# EAGLE library part WIZ550IO_V1.0 (library WIZnet)
W550io WIZ550io is an auto configurable Ethernet controller that includes a W5500 (TCP/IP hardwired chip and PHY embedded), a transformer and RJ45. It has a unique real MAC address and configures the network setting automatically. When powered on, WIZ550io initializes itself … with embedded real MAC and sets the default IP address (192.168.1.2) and it can be pinged. Therefore, users are not required to write MAC and network information like IP address, Subnet mask and Gateway address. The WIZ550io is an ideal product for users who want to develop their Internet enabling systems rapidly.
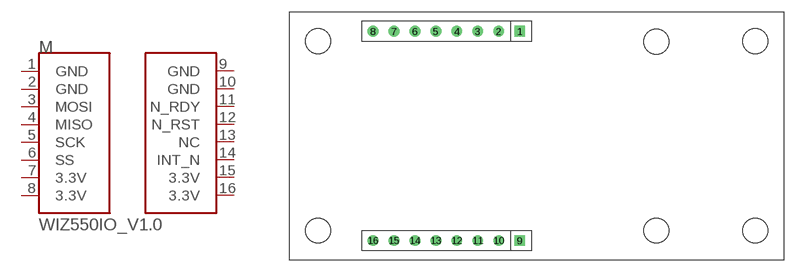
[diagram p0: symbol with the pads of WIZ550IO_V1.0; footprint WIZ550IO_V1.0]

Designator prefix M

## WIZ550IO_V1.0  [WIZ550IO_V1.0]
1  GND  pas
2  GND  pas
3  MOSI  pas
4  MISO  pas
5  SCK  pas
6  SS  pas
7  3.3V  pas
8  3.3V  pas
9  GND  pas
10  GND  pas
11  N_RDY  pas
12  N_RST  pas
13  NC  pas
14  INT_N  pas
15  3.3V  pas
16  3.3V  pas

## Footprint WIZ550IO_V1.0 (pad centres in mm)
drill 0.8 square: 1 -2.06,12.7; 9 -2.06,-12.7
drill 0.8: 2 -4.6,12.7; 3 -7.14,12.7; 4 -9.68,12.7; 5 -12.22,12.7; 6 -14.76,12.7; 7 -17.3,12.7; 8 -19.84,12.7; 10 -4.6,-12.7; 11 -7.14,-12.7; 12 -9.68,-12.7; 13 -12.22,-12.7; 14 -14.76,-12.7; 15 -17.3,-12.7; 16 -19.84,-12.7
hole 3 at -26.5,11.5
hole 3 at -26.5,-11.5
hole 3 at 26.5,11.5
hole 3 at 26.5,-11.5
hole 3 at 14.5,11.43
hole 3 at 14.5,-11.5